# Altium footprint library GyroBoard.PcbLib: 17 footprints (part 1 of 2)
Each footprint in its own frame and in the unit in brackets; x right, y up, seen from the top. Pads: shape width x height; smd on the part's side, far side on the other; paste and mask are expansions set on the pad; w line width, h text height; cw(c..) or ccw(c..) is an arc to the next point about the centre after c.
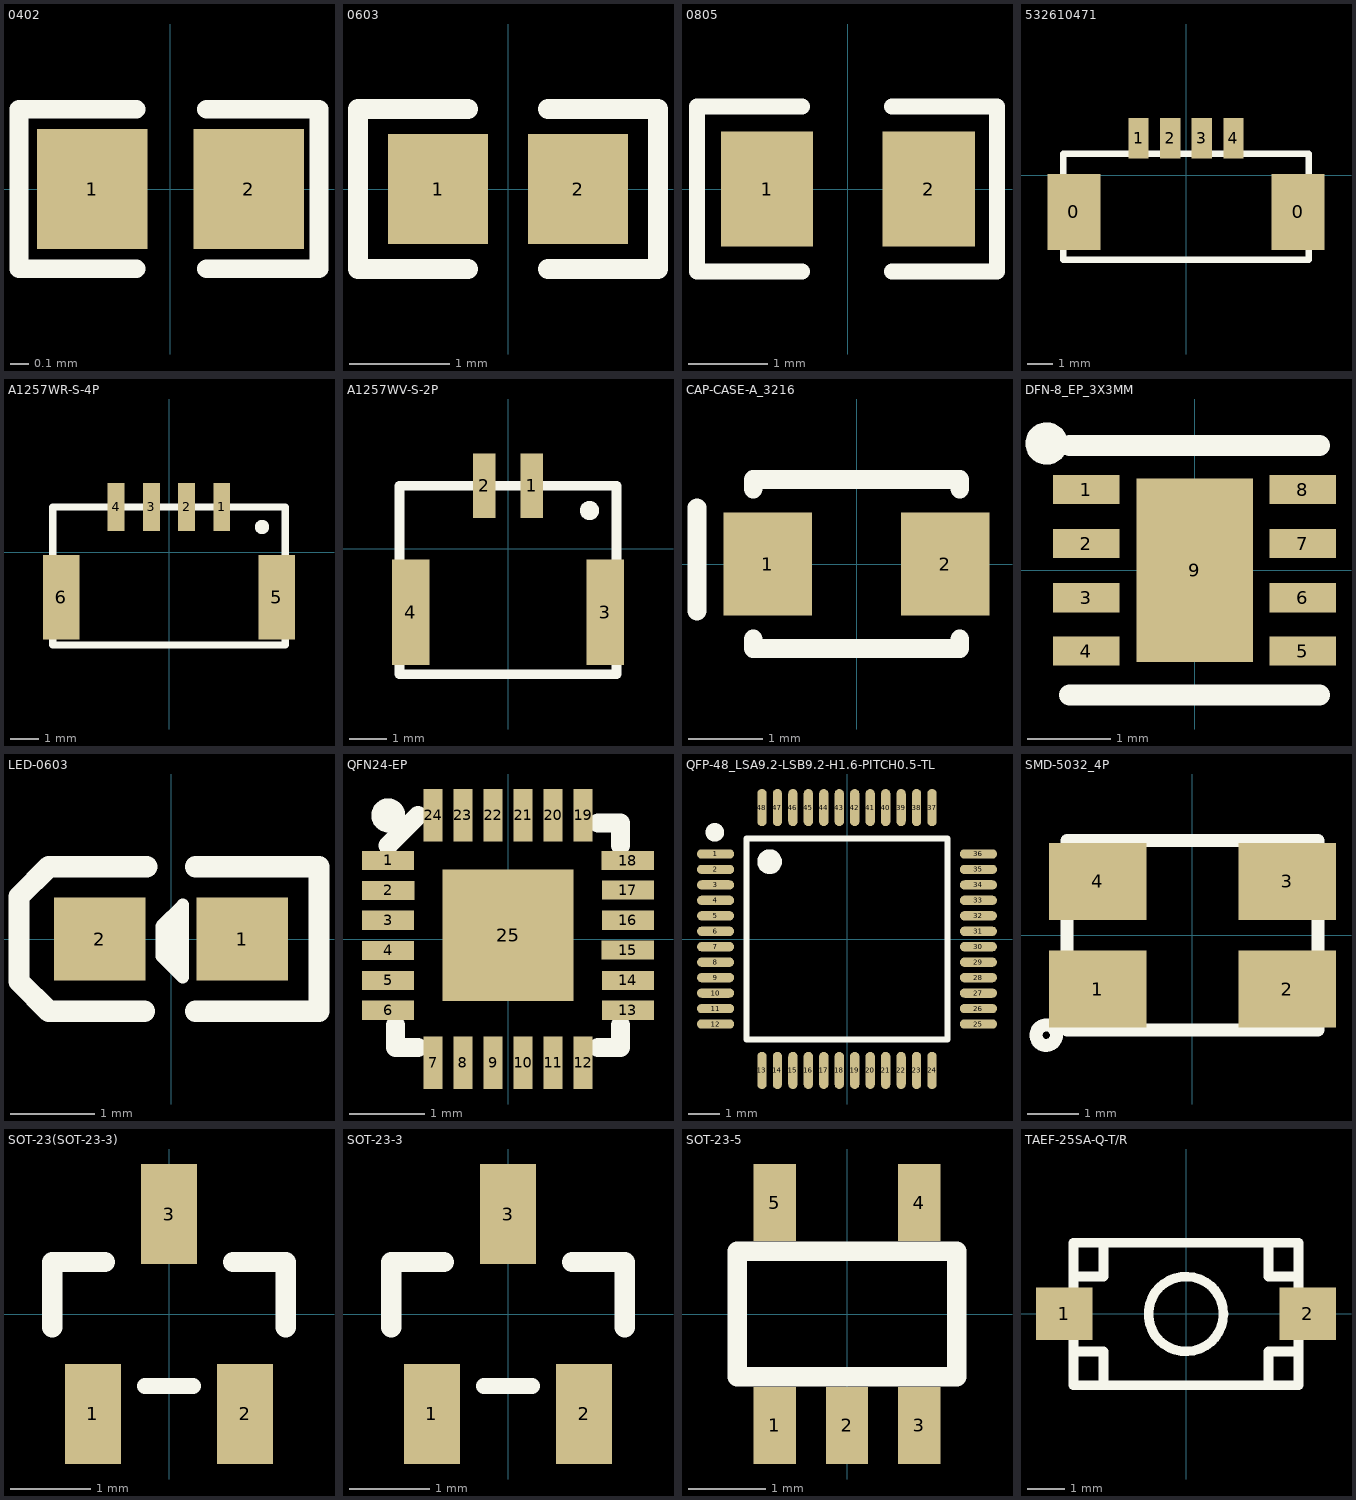
[diagram p0: the footprints below, top view; thin cyan lines are the x and y axes]

## 0402 [mm]
pads (2):
  rect 0.6x0.65 smd: 1(-0.424,0) 2(0.424,0)
Top Overlay:
  lines w0.102: -0.185,-0.432 -0.287,-0.432 -0.82,-0.432 -0.82,0.432 -0.185,0.432 ; 0.196,-0.432 0.805,-0.432 0.805,0.432 0.272,0.432 0.196,0.432

## 0603 [mm]
pads (2):
  rect 1x1.1 smd: 1(-0.7,0) 2(0.7,0)
Top Overlay:
  lines w0.2: -0.4,-0.8 -1.5,-0.8 -1.5,-0.2 -1.5,0.8 -0.4,0.8 ; 0.4,-0.8 1.5,-0.8 1.5,0.8 0.4,0.8

## 0805 [mm]
pads (2):
  rect 1.16x1.45 smd: 1(-1.016,0) 2(1.016,0)
Top Overlay:
  lines w0.2: -0.577,-1.035 -1.897,-1.035 -1.897,1.035 -0.577,1.035 ; 0.555,-1.035 1.875,-1.035 1.875,1.035 0.555,1.035

## 532610471 [mm]
pads (6):
  rect 2.1x3 smd: 0(-4.425,-1.45) 0(4.425,-1.45)
  rect 0.8x1.6 smd: 1(-1.875,1.45) 2(-0.625,1.45) 3(0.625,1.45) 4(1.875,1.45)
Top Overlay:
  lines w0.254: -4.85,-3.35 4.85,-3.35 4.85,0.85 -4.85,0.85 -4.85,-3.35

## A1257WR-S-4P [mm]
pads (6):
  rect 0.6x1.7 smd: 1(1.874,1.6) 2(0.625,1.6) 3(-0.625,1.6) 4(-1.875,1.6)
  rect 1.3x3 smd: 5(3.825,-1.6) 6(-3.825,-1.6)
Top Overlay:
  circle w0.254: c3.302,0.889 r0.127
  lines w0.254: -4.125,-3.3 4.125,-3.3 4.125,1.6 -4.125,1.6 -4.125,-3.3

## A1257WV-S-2P [mm]
pads (4):
  rect 0.6x1.7 smd: 1(0.625,1.675) 2(-0.625,1.675)
  rect 1x2.8 smd: 3(2.575,-1.675) 4(-2.575,-1.675)
Top Overlay:
  circle w0.254: c2.159,1.016 r0.127
  lines w0.254: -2.875,-3.325 -2.875,1.675 2.875,1.675 2.875,-3.325 -2.875,-3.325

## CAP-CASE-A_3216 [mm]
pads (2):
  rect 1.2x1.4 smd: 1(-1.2,0) 2(1.2,0)
Top Overlay:
  lines w0.254: -2.159,-0.635 -2.159,0.762 ; -1.397,-1.016 -1.397,-1.143 1.397,-1.143 1.397,-1.016 ; -1.397,1.016 -1.397,1.143 1.397,1.143 1.397,1.016

## DFN-8_EP_3X3MM [mm]
pads (9):
  rect 0.8x0.35 smd: 1(-1.3,0.97) 2(-1.3,0.32) 3(-1.3,-0.33) 4(-1.3,-0.97) 5(1.3,-0.97) 6(1.3,-0.33) 7(1.3,0.32) 8(1.3,0.97)
  rect 1.4x2.2 smd: 9(0,0)
Top Overlay:
  circle w0.254: c-1.778,1.524 r0.127
  lines w0.254: -1.5,-1.5 1.5,-1.5 ; -1.5,1.5 1.5,1.5

## LED-0603 [mil]
pads (2):
  rect 43x39 smd: 1(33.5,0) 2(-33.5,0)
Top Overlay:
  lines w5.91: 0.5,-11 0.5,9 ; 5.5,-15 5.5,16 -4.5,6 -4.5,-8 5.5,-18 5.5,-9
  lines w10: -12.5,-34 -57.5,-34 -71.5,-20 -71.5,20 -57.5,34 -11.5,34 ; 11.5,-34 69.5,-34 69.5,34 11.5,34

## QFN24-EP [mil]
pads (25):
  rect 27.56x10 smd: 1(-63.05,41.35) 2(-62.95,25.55) 3(-63.05,9.85) 4(-63.05,-5.95) 5(-63.05,-21.75) 6(-63.05,-37.45) 13(63.05,-37.45) 14(63.05,-21.75) 15(62.95,-5.85) 16(63.05,9.85) 17(63.05,25.65) 18(62.95,41.25)
  rect 10x27.56 smd: 7(-39.35,-65.05) 8(-23.65,-65.05) 9(-7.85,-65.05) 10(7.95,-65.05) 11(23.65,-64.95) 12(39.45,-64.95) 19(39.45,65.05) 20(23.75,65.05) 21(7.95,65.05) 22(-7.85,65.05) 23(-23.65,65.05) 24(-39.35,65.05)
  rect 68.9x68.9 smd: 25(0.05,1.95)
Top Overlay:
  circle w10: c-62.94,64.94 r3.94
  lines w10: -62.94,49.19 -47.19,64.94 ; -59.05,-45.31 -59.05,-57.12 -47.23,-57.12 ; 47.24,-57.13 59.05,-57.13 59.05,-45.31 ; 47.29,61 59.11,61 59.11,49.19

## QFP-48_LSA9.2-LSB9.2-H1.6-PITCH0.5-TL [mm]
pads (48):
  oval 1.2x0.3 smd: 1(-4.25,2.75) 2(-4.25,2.25) 3(-4.25,1.75) 4(-4.25,1.25) 5(-4.25,0.75) 6(-4.25,0.25) 7(-4.25,-0.25) 8(-4.25,-0.75) 9(-4.25,-1.25) 10(-4.25,-1.75) 11(-4.25,-2.25) 12(-4.25,-2.75) 25(4.25,-2.75) 26(4.25,-2.25) 27(4.25,-1.75) 28(4.25,-1.25) 29(4.25,-0.75) 30(4.25,-0.25) 31(4.25,0.25) 32(4.25,0.75) 33(4.25,1.25) 34(4.25,1.75) 35(4.25,2.25) 36(4.25,2.75)
  oval 0.3x1.2 smd: 13(-2.75,-4.25) 14(-2.25,-4.25) 15(-1.75,-4.25) 16(-1.25,-4.25) 17(-0.75,-4.25) 18(-0.25,-4.25) 19(0.25,-4.25) 20(0.75,-4.25) 21(1.25,-4.25) 22(1.75,-4.25) 23(2.25,-4.25) 24(2.75,-4.25) 37(2.75,4.25) 38(2.25,4.25) 39(1.75,4.25) 40(1.25,4.25) 41(0.75,4.25) 42(0.25,4.25) 43(-0.25,4.25) 44(-0.75,4.25) 45(-1.25,4.25) 46(-1.75,4.25) 47(-2.25,4.25) 48(-2.75,4.25)
Top Overlay:
  lines w0.2: -3.25,-3.25 3.25,-3.25 3.25,3.25 -3.25,3.25 -3.25,-3.25
  lines w0.3: -4.125,3.447 cw(c-4.275,3.448) -4.125,3.449
  lines w0.4: -2.3,2.497 cw(c-2.5,2.499) -2.3,2.5

## SMD-5032_4P [mm]
pads (4):
  rect 1.9x1.5 smd: 1(-1.849,-1.05) 2(1.847,-1.05) 3(1.849,1.05) 4(-1.849,1.05)
Top Overlay:
  circle w0.254: c-2.85,-1.95 r0.2
  lines w0.254: -2.45,-1.85 2.45,-1.85 2.45,1.85 -2.25,1.85 -2.45,1.85 -2.45,-1.85

## SOT-23(SOT-23-3) [mm]
pads (3):
  rect 0.7x1.25 smd: 1(-0.95,-1.25) 2(0.95,-1.25) 3(0,1.25)
Top Overlay:
  lines w0.2: -0.3,-0.9 0.3,-0.9
  lines w0.254: -1.46,-0.165 -1.46,0.65 -0.8,0.65 ; 1.46,-0.165 1.46,0.65 ; 0.8,0.65 1.46,0.65 ; 0.8,0.65 1.46,0.65 ; 0.8,0.65 1.46,0.65

## SOT-23-3 [mm]
pads (3):
  rect 0.7x1.25 smd: 1(-0.95,-1.25) 2(0.95,-1.25) 3(0,1.25)
Top Overlay:
  lines w0.2: -0.3,-0.9 0.3,-0.9
  lines w0.254: -1.46,-0.165 -1.46,0.65 -0.8,0.65 ; 1.46,-0.165 1.46,0.65 ; 0.8,0.65 1.46,0.65 ; 0.8,0.65 1.46,0.65 ; 0.8,0.65 1.46,0.65

## SOT-23-5 [mil]
pads (5):
  rect 21.7x39.37 smd: 1(-37,-57) 2(0,-57) 3(37,-57) 4(37,57) 5(-37,57)
Top Overlay:
  lines w10: -52,-31.99 -56,-31.99 ; -52,32.01 -56,32.01 ; -21,-31.99 -17,-31.99 ; -21,32.01 21,32.01 ; 17,-31.99 21,-31.99 ; 52,-31.99 56,-31.99 ; 52,32.01 56,32.01 ; -56,-31.99 56,-31.99 ; -56,-31.99 -56,32.01 ; -56,32.01 33,32.01 56,32.01 ; 56,-31.99 56,32.01

## TAEF-25SA-Q-T/R [mm]
pads (2):
  rect 1.5x1.4 smd: 1(-3.25,0) 2(3.25,0)
Top Overlay:
  circle w0.254: c0,0 r1
  lines w0.254: -3,-1 -2.2,-1 -2.2,-1.8 ; -3,1 -2.2,1 -2.2,1.8 ; 2.2,-1.8 2.2,-1 3,-1 ; 2.2,1.8 2.2,1 3,1 ; -3,-1.9 3,-1.9 3,1.9 -3,1.9 -3,-1.9